# EAGLE library part PCA8581 (library i2c_epccs)
128 x 8-Bit EEPROM with I²C Bus Interface
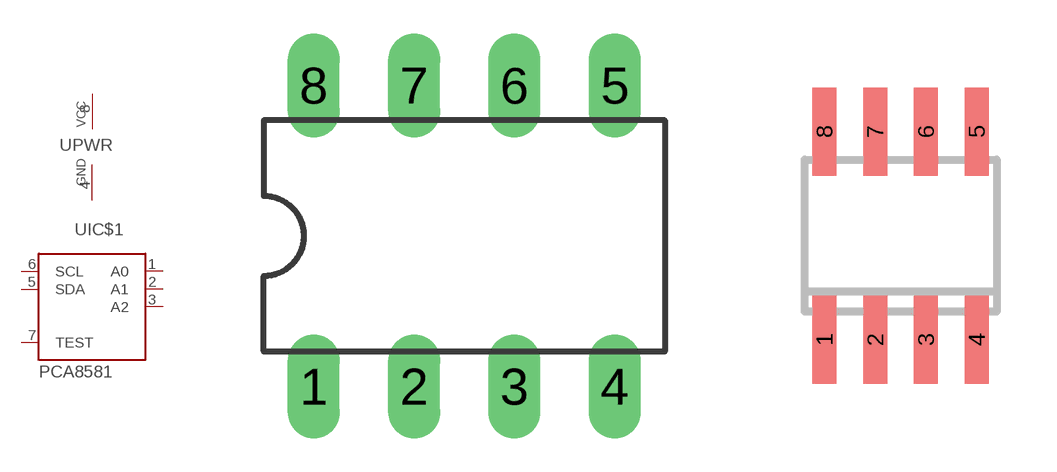
[diagram p11: symbol with the pads of DIL08; footprints DIL08, SO08]

Designator prefix -; gates IC$1=PCA8581 PWR=PWRN

## PCA8581P  [DIL08]
1  IC$1:A0  in
2  IC$1:A1  in
3  IC$1:A2  in
4  PWR:GND  pwr
5  IC$1:SDA
6  IC$1:SCL  in
7  IC$1:TEST
8  PWR:VCC  pwr

## PCA8581CP  [DIL08]
Pads as for DIL08

## PCA8581T  [SO08]
Pads as for DIL08

## PCA8581CT  [SO08]
Pads as for DIL08

## Footprint DIL08 (pad centres in mm)
drill 0.813 long: 1 -3.81,-3.81; 2 -1.27,-3.81; 3 1.27,-3.81; 4 3.81,-3.81; 5 3.81,3.81; 6 1.27,3.81; 7 -1.27,3.81; 8 -3.81,3.81

## Footprint SO08 (pad centres in mm)
smd 0.6 x 2.2: 1 -1.905,-2.6; 2 -0.635,-2.6; 3 0.635,-2.6; 4 1.905,-2.6; 5 1.905,2.6; 6 0.635,2.6; 7 -0.635,2.6; 8 -1.905,2.6